# Altium footprint library IC_Texas_Instruments_DRV8848PWP_eec_0.PcbLib: 1 footprints
Each footprint in its own frame and in the unit in brackets; x right, y up, seen from the top. Pads: shape width x height; smd on the part's side, far side on the other; paste and mask are expansions set on the pad; w line width, h text height; cw(c..) or ccw(c..) is an arc to the next point about the centre after c.
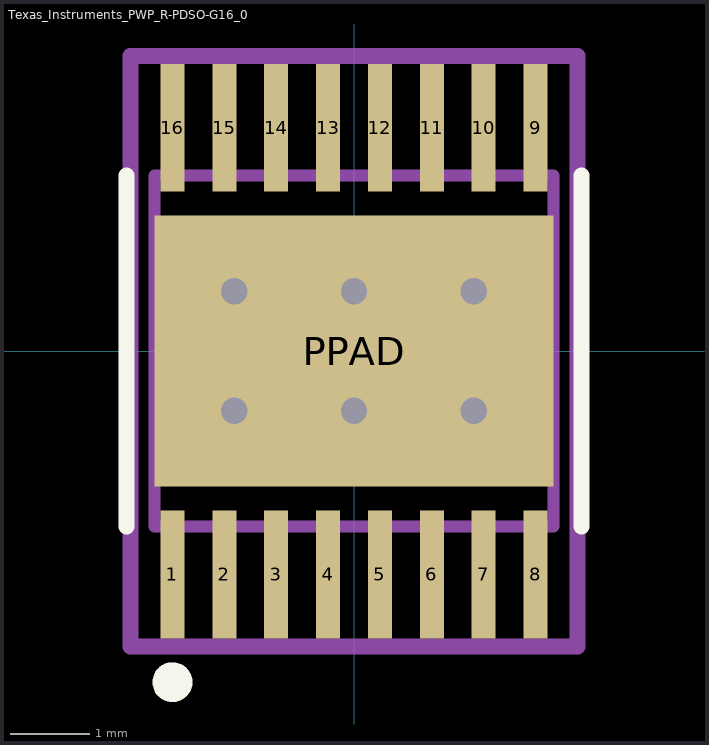
[diagram p0: the footprint, top view; thin cyan lines are the x and y axes]

## Texas_Instruments_PWP_R-PDSO-G16_0 [mm]
pads (17):
  rect 0.3x1.6 smd paste-1000 mask+0: 1(-2.275,-2.8) 2(-1.625,-2.8) 3(-0.975,-2.8) 4(-0.325,-2.8) 5(0.325,-2.8) 6(0.975,-2.8) 7(1.625,-2.8) 8(2.275,-2.8) 9(2.275,2.8) 10(1.625,2.8) 11(0.975,2.8) 12(0.325,2.8) 13(-0.325,2.8) 14(-0.975,2.8) 15(-1.625,2.8) 16(-2.275,2.8)
  rect 5x3.4 smd paste-1000 mask-1000: PPAD(0,0)
via -1.5,0.75 diameter 0.63 hole 0.33
via 0,0.75 diameter 0.63 hole 0.33
via 1.5,0.75 diameter 0.63 hole 0.33
via -1.5,-0.75 diameter 0.63 hole 0.33
via 0,-0.75 diameter 0.63 hole 0.33
via 1.5,-0.75 diameter 0.63 hole 0.33
Top Overlay:
  circle w0.25: c-2.275,-4.15 r0.125
  lines w0.2: -2.85,-2.2 -2.85,2.2 ; 2.85,-2.2 2.85,2.2
Top Paste:
  rectangle: -2.4,-3.575 -2.15,-2.025
  rectangle: -1.75,-3.575 -1.5,-2.025
  rectangle: -1.1,-3.575 -0.85,-2.025
  rectangle: -0.45,-3.575 -0.2,-2.025
  rectangle: 0.2,-3.575 0.45,-2.025
  rectangle: 0.85,-3.575 1.1,-2.025
  rectangle: 1.5,-3.575 1.75,-2.025
  rectangle: 2.15,-3.575 2.4,-2.025
  rectangle: 2.15,2.025 2.4,3.575
  rectangle: 1.5,2.025 1.75,3.575
  rectangle: 0.85,2.025 1.1,3.575
  rectangle: 0.2,2.025 0.45,3.575
  rectangle: -0.45,2.025 -0.2,3.575
  rectangle: -1.1,2.025 -0.85,3.575
  rectangle: -1.75,2.025 -1.5,3.575
  rectangle: -2.4,2.025 -2.15,3.575
  rectangle: 0,-2.46 2.31,0
Top Solder:
  rectangle: -1.155,-1.23 1.155,1.23
Mechanical 10:
  lines w0.2: -2.8,-3.7 2.8,-3.7 2.8,3.7 -2.8,3.7 -2.8,-3.7
  text ".Designator" at 0,0 h1
Mechanical 12:
  lines w0.15: -2.5,-2.2 2.5,-2.2 2.5,2.2 -2.5,2.2 -2.5,-2.2
Mechanical 15:
  lines w0.1: -0.5,0 0.5,0 ; 0,-0.5 0,0.5
  lines w0.2: -2.8,-3.7 2.8,-3.7 2.8,3.7 -2.8,3.7 -2.8,-3.7